# EAGLE library part MCP2515-I/SO (library cpsmv)
CAN Controller
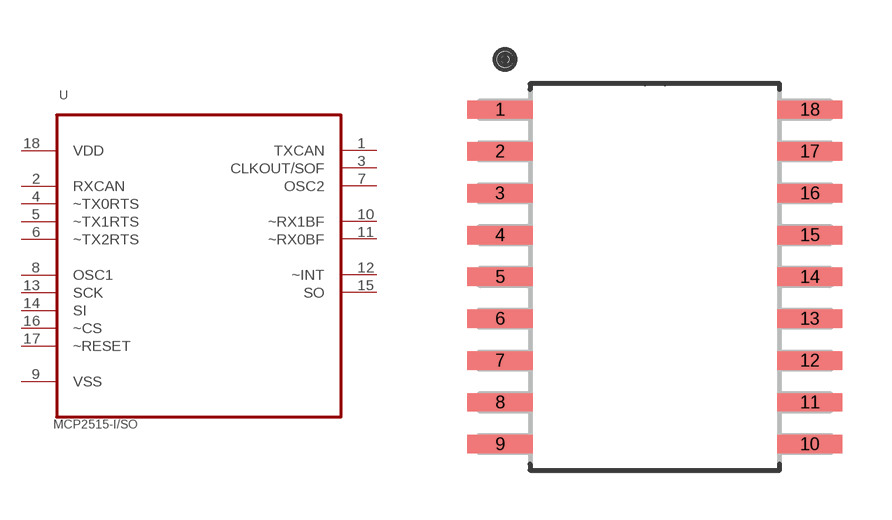
[diagram p12: symbol with the pads of SOIC127P1034X264-18N; footprint SOIC127P1034X264-18N]

Designator prefix U

## MCP2515-I/SO (DATASHEET_LINK: http://ww1.microchip.com/downloads/en/DeviceDoc/21801G.pdf; MANUFACTURER: Microchip; MANUFACTURER_PN: MCP2515-I/SO; PACKAGE: SOIC-18; SUPPLIER: Digi-Key; SUPPLIER_PN: MCP2515-I/SO-ND)  [SOIC127P1034X264-18N]
1  TXCAN  out
2  RXCAN  in
3  CLKOUT/SOF  out
4  ~TX0RTS  in
5  ~TX1RTS  in
6  ~TX2RTS  in
7  OSC2  out
8  OSC1  in
9  VSS  pwr
10  ~RX1BF  out
11  ~RX0BF  out
12  ~INT  out
13  SCK  in
14  SI  in
15  SO  out
16  ~CS  in
17  ~RESET  in
18  VDD  pwr

## Footprint SOIC127P1034X264-18N (pad centres in mm)
smd 1.981 x 0.559: 1 -4.699,5.08; 2 -4.699,3.81; 3 -4.699,2.54; 4 -4.699,1.27; 5 -4.699,0; 6 -4.699,-1.27; 7 -4.699,-2.54; 8 -4.699,-3.81; 9 -4.699,-5.08; 10 4.699,-5.08; 11 4.699,-3.81; 12 4.699,-2.54; 13 4.699,-1.27; 14 4.699,0; 15 4.699,1.27; 16 4.699,2.54; 17 4.699,3.81; 18 4.699,5.08